# EAGLE library part AT90USB* (library hs-ul)
8-bit-Mikrocontroller mit USB 16 MHz, 8/16 KByte Flash, 0,5 KB RAM, 0,5 KB EEPROM USB Full-Speed, 4 Endpoints, passender Quarz: 2..16 MHz 2 Timer, 1 UART mit RTS/CTS, SPI Kein ADC, I²C Anscheinend kein USB-Bootloader
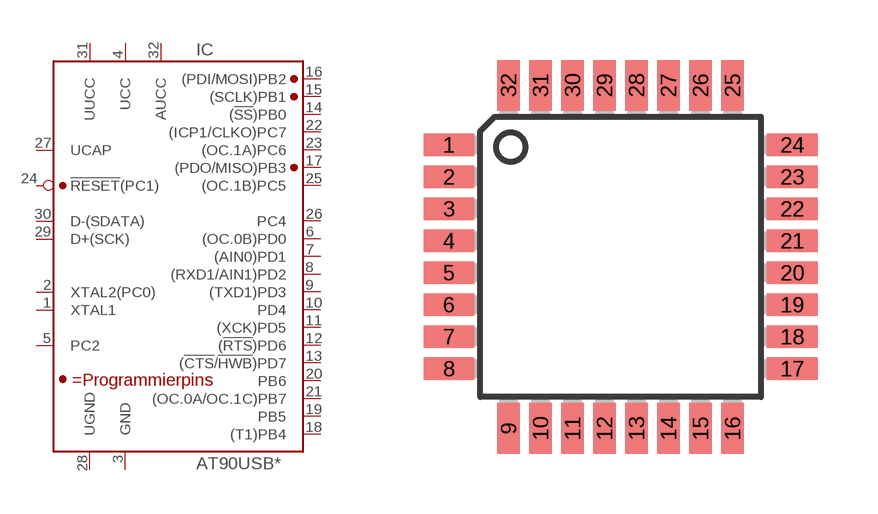
[diagram p7: symbol with the pads of TQFP32-08; footprint TQFP32-08]

Designator prefix IC

## AT90USB162-16AU  [TQFP32-08]
1  XTAL1  in
2  XTAL2(PC0)
3  GND  pwr
4  UCC  pwr
5  PC2
6  (OC.0B)PD0
7  (AIN0)PD1
8  (RXD1/AIN1)PD2
9  (TXD1)PD3
10  PD4
11  (XCK)PD5
12  (!RTS!)PD6
13  (!CTS!/!HWB!)PD7
14  (!SS!)PB0
15  (SCLK)PB1
16  (PDI/MOSI)PB2
17  (PDO/MISO)PB3
18  (T1)PB4
19  PB5
20  PB6
21  (OC.0A/OC.1C)PB7
22  (ICP1/CLKO)PC7
23  (OC.1A)PC6
24  !RESET!(PC1)  in
25  (OC.1B)PC5
26  PC4
27  UCAP  pas
28  UGND  pwr
29  D+(SCK)
30  D-(SDATA)
31  UUCC  pwr
32  AUCC  pwr

## Footprint TQFP32-08 (pad centres in mm)
Thin Plasic Quad Flat Package Grid 0.8 mm
smd 1.27 x 0.559: 1 -4.293,2.8; 2 -4.293,2; 3 -4.293,1.2; 4 -4.293,0.4; 5 -4.293,-0.4; 6 -4.293,-1.2; 7 -4.293,-2; 8 -4.293,-2.8; 17 4.293,-2.8; 18 4.293,-2; 19 4.293,-1.2; 20 4.293,-0.4; 21 4.293,0.4; 22 4.293,1.2; 23 4.293,2; 24 4.293,2.8
smd 0.559 x 1.27: 9 -2.8,-4.293; 10 -2,-4.293; 11 -1.2,-4.293; 12 -0.4,-4.293; 13 0.4,-4.293; 14 1.2,-4.293; 15 2,-4.293; 16 2.8,-4.293; 25 2.8,4.293; 26 2,4.293; 27 1.2,4.293; 28 0.4,4.293; 29 -0.4,4.293; 30 -1.2,4.293; 31 -2,4.293; 32 -2.8,4.293